# Altium integrated library ST Power Mgt Limiter.IntLib: 1 symbol
Pins are listed as number, name and electrical type; pins without a type are passive.

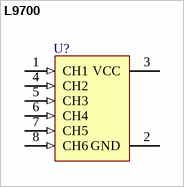
[diagram p0: symbol L9700]

## L9700
designator U?
HEX Precision Limiter; Published: 24-Aug-2001; LatestRevisionDate: 17-Jul-2002; LatestRevisionNote: Re-released for DXP Platform.; DatasheetDocument: Nov-1990; PackageReference: DIP8; Publisher: Altium Limited; Code_JEDEC: MO-001-AN
footprint DIP8 (DIP; 8 Leads; Row Spacing 7.62 mm; Pitch 2.54 mm)
pins: 1 CH1 (in), 2 GND (power), 3 VCC (power), 4 CH2 (in), 5 CH3 (in), 6 CH4 (in), 7 CH5 (in), 8 CH6 (in)